# Altium schematic symbol library ISO7221.Schlib: 1 symbol
Pins are listed as number, name and electrical type; pins without a type are passive.

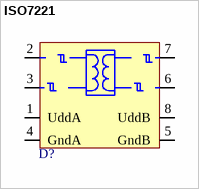
[diagram p0: symbol ISO7221]

## ISO7221
designator D?  (value not drawn)
Two channel isolator, ESD-protection
footprint SO-8
pins: 1 UddA (power), 2, 3, 4 GndA (power), 5 GndB, 6 OUT, 7 EN, 8 UddB